# EAGLE library part ICM-20602 (library Eagle CMR)
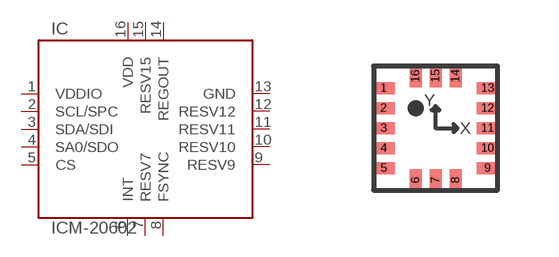
[diagram p5: symbol with the pads of LGA-16; footprint LGA-16]

Designator prefix IC

## ICM-20602  [LGA-16]
1  VDDIO
2  SCL/SPC
3  SDA/SDI
4  SA0/SDO
5  CS
6  INT
7  RESV7
8  FSYNC
9  RESV9
10  RESV10
11  RESV11
12  RESV12
13  GND
14  REGOUT
15  RESV15
16  VDD

## Footprint LGA-16 (pad centres in mm)
smd 0.55 x 0.3: 1 -1.3,1; 2 -1.3,0.5; 3 -1.3,0; 4 -1.3,-0.5; 5 -1.3,-1; 9 1.3,-1; 10 1.3,-0.5; 11 1.3,0; 12 1.3,0.5; 13 1.3,1
smd 0.3 x 0.55: 6 -0.5,-1.3; 7 0,-1.3; 8 0.5,-1.3; 14 0.5,1.3; 15 0,1.3; 16 -0.5,1.3